# Altium integrated library Capacitors - Aluminum - Electrolytic SMT.IntLib: 1988 symbols (part 2 of 50)
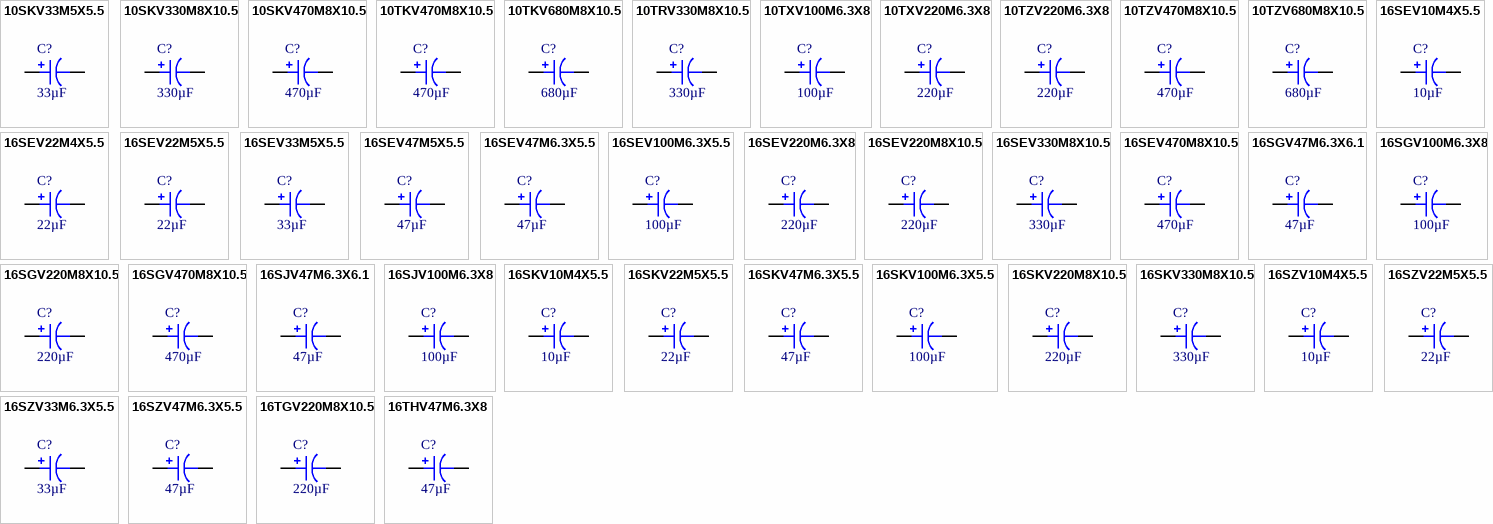
[diagram p50: symbols 10SKV33M5X5.5 to 16THV47M6.3X8]

## 10SKV33M5X5.5
designator C?, comment 33µF
CAP ALUM 33UF 20% 10V SMD; Part Number: 10SKV33M5X5.5; Manufacturer: Rubycon; Lifetime @ Temp.: 1000 Hrs @ 105°C; Polarization: Polar; Ripple Current @ Low Frequency: 34mA @ 120Hz; Surface Mount Land Size: 0.209" L x 0.209" W (5.30mm x 5.30mm); Applications: General Purpose; Capacitance: 33µF; ComponentLink1Description: Datasheet; ComponentLink1URL: http://www.rubycon.co.jp/en/catalog/e_pdfs/aluminum/e_SKV.pdf; ComponentLink2Description: DigiKey Link; ComponentLink2URL: http://digikey.com/product-detail/en/rubycon/10SKV33M5X5.5/1189-3066-1-ND/6050368; Device Package: Radial, Can - SMD; Height - Seated (Max): 0.217" (5.50mm); LastUpdated: 9/2/2020 1:25:24 AM; Lifecycle Status: Active; Minimum Order: 1; Mounting Type: Surface Mount; Operating Temperature: -55°C ~ 105°C; Package / Case: Radial, Can - SMD; Packaging: TapeAndReel; PartId: 7874; Part Status: Active; Price: 0.10; Series: SKV; Size / Dimension: 0.197" Dia (5.00mm); Supplier 1: DigiKey; Supplier Part Number 1: 1189-3066-1-ND; Tolerance: ±20%; Value: 33µF; Voltage - Rated: 10V
footprint CAP ALSMD 5.3MM H5.4MM
pins: 1, 2

## 10SKV330M8X10.5
designator C?, comment 330µF
CAP ALUM 330UF 20% 10V SMD; Part Number: 10SKV330M8X10.5; Manufacturer: Rubycon; Lifetime @ Temp.: 1000 Hrs @ 105°C; Polarization: Polar; Ripple Current @ High Frequency: 234mA @ 10kHz; Ripple Current @ Low Frequency: 195mA @ 120Hz; Surface Mount Land Size: 0.327" L x 0.327" W (8.30mm x 8.30mm); Applications: General Purpose; Capacitance: 330µF; ComponentLink1Description: Datasheet; ComponentLink1URL: http://www.rubycon.co.jp/en/catalog/e_pdfs/aluminum/e_SKV.pdf; ComponentLink2Description: DigiKey Link; ComponentLink2URL: http://digikey.com/product-detail/en/rubycon/10SKV330M8X10.5/1189-3065-1-ND/6050367; Device Package: Radial, Can - SMD; Height - Seated (Max): 0.413" (10.50mm); LastUpdated: 9/2/2020 1:25:15 AM; Lifecycle Status: Active; Minimum Order: 1; Mounting Type: Surface Mount; Operating Temperature: -55°C ~ 105°C; Package / Case: Radial, Can - SMD; Packaging: TapeAndReel; PartId: 7554; Part Status: Active; Price: 0.22; Series: SKV; Size / Dimension: 0.315" Dia (8.00mm); Supplier 1: DigiKey; Supplier Part Number 1: 1189-3065-1-ND; Tolerance: ±20%; Value: 330µF; Voltage - Rated: 10V
footprint CAP ALSMD 8.3MM H10.5MM
pins: 1, 2

## 10SKV470M8X10.5
designator C?, comment 470µF
CAP ALUM 470UF 20% 10V SMD; Part Number: 10SKV470M8X10.5; Manufacturer: Rubycon; Lifetime @ Temp.: 1000 Hrs @ 105°C; Polarization: Polar; Ripple Current @ High Frequency: 252mA @ 10kHz; Ripple Current @ Low Frequency: 210mA @ 120Hz; Surface Mount Land Size: 0.327" L x 0.327" W (8.30mm x 8.30mm); Applications: General Purpose; Capacitance: 470µF; ComponentLink1Description: Datasheet; ComponentLink1URL: http://www.rubycon.co.jp/en/catalog/e_pdfs/aluminum/e_SKV.pdf; ComponentLink2Description: DigiKey Link; ComponentLink2URL: http://digikey.com/product-detail/en/rubycon/10SKV470M8X10.5/1189-3067-1-ND/6050369; Device Package: Radial, Can - SMD; Height - Seated (Max): 0.413" (10.50mm); LastUpdated: 9/2/2020 1:25:16 AM; Lifecycle Status: Active; Minimum Order: 1; Mounting Type: Surface Mount; Operating Temperature: -55°C ~ 105°C; Package / Case: Radial, Can - SMD; Packaging: TapeAndReel; PartId: 7459; Part Status: Active; Price: 0.23; Series: SKV; Size / Dimension: 0.315" Dia (8.00mm); Supplier 1: DigiKey; Supplier Part Number 1: 1189-3067-1-ND; Tolerance: ±20%; Value: 470µF; Voltage - Rated: 10V
footprint CAP ALSMD 8.3MM H10.5MM
pins: 1, 2

## 10TKV470M8X10.5
designator C?, comment 470µF
CAP ALUM 470UF 20% 10V SMD; Part Number: 10TKV470M8X10.5; Manufacturer: Rubycon; ESR (Equivalent Series Resistance): 80mOhm @ 100kHz; Lifetime @ Temp.: 2000 Hrs @ 105°C; Polarization: Polar; Ripple Current @ High Frequency: 850mA @ 100kHz; Ripple Current @ Low Frequency: 510mA @ 120Hz; Surface Mount Land Size: 0.327" L x 0.327" W (8.30mm x 8.30mm); Applications: Automotive; Capacitance: 470µF; ComponentLink1Description: Datasheet; ComponentLink1URL: http://www.rubycon.co.jp/en/catalog/e_pdfs/aluminum/e_TKV.pdf; ComponentLink2Description: DigiKey Link; ComponentLink2URL: http://digikey.com/product-detail/en/rubycon/10TKV470M8X10.5/1189-2063-1-ND/3986982; Device Package: Radial, Can - SMD; Height - Seated (Max): 0.413" (10.50mm); LastUpdated: 9/2/2020 1:25:14 AM; Lifecycle Status: Active; Minimum Order: 1; Mounting Type: Surface Mount; Operating Temperature: -55°C ~ 105°C; Package / Case: Radial, Can - SMD; Packaging: TapeAndReel; PartId: 7670; Part Status: Active; Price: 0.36; Ratings: AEC-Q200; Series: TKV; Size / Dimension: 0.315" Dia (8.00mm); Supplier 1: DigiKey; Supplier Part Number 1: 1189-2063-1-ND; Tolerance: ±20%; Value: 470µF; Voltage - Rated: 10V
footprint CAP ALSMD 8.3MM H10.5MM
pins: 1, 2

## 10TKV680M8X10.5
designator C?, comment 680µF
CAP ALUM 680UF 20% 10V SMD; Part Number: 10TKV680M8X10.5; Manufacturer: Rubycon; ESR (Equivalent Series Resistance): 80mOhm @ 100kHz; Lifetime @ Temp.: 2000 Hrs @ 105°C; Polarization: Polar; Ripple Current @ High Frequency: 850mA @ 100kHz; Ripple Current @ Low Frequency: 510mA @ 120Hz; Surface Mount Land Size: 0.327" L x 0.327" W (8.30mm x 8.30mm); Applications: Automotive; Capacitance: 680µF; ComponentLink1Description: Datasheet; ComponentLink1URL: http://www.rubycon.co.jp/en/catalog/e_pdfs/aluminum/e_TKV.pdf; ComponentLink2Description: DigiKey Link; ComponentLink2URL: http://digikey.com/product-detail/en/rubycon/10TKV680M8X10.5/1189-2064-1-ND/3986983; Device Package: Radial, Can - SMD; Height - Seated (Max): 0.413" (10.50mm); LastUpdated: 9/2/2020 1:25:15 AM; Lifecycle Status: Active; Minimum Order: 1; Mounting Type: Surface Mount; Operating Temperature: -55°C ~ 105°C; Package / Case: Radial, Can - SMD; Packaging: TapeAndReel; PartId: 7583; Part Status: Active; Price: 0.36; Ratings: AEC-Q200; Series: TKV; Size / Dimension: 0.315" Dia (8.00mm); Supplier 1: DigiKey; Supplier Part Number 1: 1189-2064-1-ND; Tolerance: ±20%; Value: 680µF; Voltage - Rated: 10V
footprint CAP ALSMD 8.3MM H10.5MM
pins: 1, 2

## 10TRV330M8X10.5
designator C?, comment 330µF
CAP ALUM 330UF 20% 10V SMD; Part Number: 10TRV330M8X10.5; Manufacturer: Rubycon; Impedance: 150 mOhms; Lifetime @ Temp.: 8000 Hrs @ 105°C; Polarization: Polar; Ripple Current @ High Frequency: 600mA @ 100kHz; Ripple Current @ Low Frequency: 360mA @ 120Hz; Surface Mount Land Size: 0.327" L x 0.327" W (8.30mm x 8.30mm); Applications: General Purpose; Capacitance: 330µF; ComponentLink1Description: Datasheet; ComponentLink1URL: http://www.rubycon.co.jp/en/catalog/e_pdfs/aluminum/e_TRV.pdf; ComponentLink2Description: DigiKey Link; ComponentLink2URL: http://digikey.com/product-detail/en/rubycon/10TRV330M8X10.5/1189-3529-1-ND/6050519; Device Package: Radial, Can - SMD; Height - Seated (Max): 0.413" (10.50mm); LastUpdated: 9/2/2020 1:25:15 AM; Lifecycle Status: Active; Minimum Order: 1; Mounting Type: Surface Mount; Operating Temperature: -40°C ~ 105°C; Package / Case: Radial, Can - SMD; Packaging: TapeAndReel; PartId: 7527; Part Status: Active; Price: 0.29; Series: TRV; Size / Dimension: 0.315" Dia (8.00mm); Supplier 1: DigiKey; Supplier Part Number 1: 1189-3529-1-ND; Tolerance: ±20%; Value: 330µF; Voltage - Rated: 10V
footprint CAP ALSMD 8.3MM H10.5MM
pins: 1, 2

## 10TXV100M6.3X8
designator C?, comment 100µF
CAP ALUM 100UF 20% 10V SMD; Part Number: 10TXV100M6.3X8; Manufacturer: Rubycon; ESR (Equivalent Series Resistance): 300mOhm; Lifetime @ Temp.: 1000 Hrs @ 125°C; Ripple Current @ High Frequency: 140mA @ 100kHz; Ripple Current @ Low Frequency: 70mA @ 120Hz; Surface Mount Land Size: 0.260" L x 0.260" W (6.60mm x 6.60mm); Applications: Automotive; Capacitance: 100µF; ComponentLink1Description: Datasheet; ComponentLink1URL: http://www.rubycon.co.jp/en/catalog/e_pdfs/aluminum/e_txv.pdf; ComponentLink2Description: DigiKey Link; ComponentLink2URL: http://digikey.com/product-detail/en/rubycon/10TXV100M6.3X8/1189-2112-1-ND/3987031; Device Package: Radial, Can - SMD; Height - Seated (Max): 0.315" (8.00mm); LastUpdated: 9/2/2020 1:25:37 AM; Lifecycle Status: Active; Minimum Order: 1; Mounting Type: Surface Mount; Operating Temperature: -40°C ~ 125°C; Package / Case: Radial, Can - SMD; Packaging: TapeAndReel; PartId: 8490; Part Status: Active; Price: 0.17; Ratings: AEC-Q200; Series: TXV; Size / Dimension: 0.248" Dia (6.30mm); Supplier 1: DigiKey; Supplier Part Number 1: 1189-2112-1-ND; Tolerance: ±20%; Value: 100µF; Voltage - Rated: 10V
footprint CAP ALSMD 6.6MM H8.0MM
pins: 1, 2

## 10TXV220M6.3X8
designator C?, comment 220µF
CAP ALUM 220UF 20% 10V SMD; Part Number: 10TXV220M6.3X8; Manufacturer: Rubycon; ESR (Equivalent Series Resistance): 700mOhm; Lifetime @ Temp.: 1000 Hrs @ 125°C; Ripple Current @ High Frequency: 110mA @ 100kHz; Ripple Current @ Low Frequency: 66mA @ 120Hz; Surface Mount Land Size: 0.260" L x 0.260" W (6.60mm x 6.60mm); Applications: Automotive; Capacitance: 220µF; ComponentLink1Description: Datasheet; ComponentLink1URL: http://www.rubycon.co.jp/en/catalog/e_pdfs/aluminum/e_txv.pdf; ComponentLink2Description: DigiKey Link; ComponentLink2URL: http://digikey.com/product-detail/en/rubycon/10TXV220M6.3X8/1189-2113-1-ND/3987032; Device Package: Radial, Can - SMD; Height - Seated (Max): 0.315" (8.00mm); LastUpdated: 9/2/2020 1:25:37 AM; Lifecycle Status: Active; Minimum Order: 1; Mounting Type: Surface Mount; Operating Temperature: -40°C ~ 125°C; Package / Case: Radial, Can - SMD; Packaging: TapeAndReel; PartId: 8489; Part Status: Active; Price: 0.17; Ratings: AEC-Q200; Series: TXV; Size / Dimension: 0.248" Dia (6.30mm); Supplier 1: DigiKey; Supplier Part Number 1: 1189-2113-1-ND; Tolerance: ±20%; Value: 220µF; Voltage - Rated: 10V
footprint CAP ALSMD 6.6MM H8.0MM
pins: 1, 2

## 10TZV220M6.3X8
designator C?, comment 220µF
CAP ALUM 220UF 20% 10V SMD; Part Number: 10TZV220M6.3X8; Manufacturer: Rubycon; Impedance: 340 mOhms; Lifetime @ Temp.: 2000 Hrs @ 105°C; Polarization: Polar; Ripple Current @ High Frequency: 300mA @ 100kHz; Ripple Current @ Low Frequency: 180mA @ 120Hz; Surface Mount Land Size: 0.260" L x 0.260" W (6.60mm x 6.60mm); Applications: Automotive; Capacitance: 220µF; ComponentLink1Description: Datasheet; ComponentLink1URL: http://www.rubycon.co.jp/en/catalog/e_pdfs/aluminum/e_tzv.pdf; ComponentLink2Description: DigiKey Link; ComponentLink2URL: http://digikey.com/product-detail/en/rubycon/10TZV220M6.3X8/1189-1522-1-ND/3134478; Device Package: Radial, Can - SMD; Height - Seated (Max): 0.315" (8.00mm); LastUpdated: 9/2/2020 1:25:37 AM; Lifecycle Status: Active; Minimum Order: 1; Mounting Type: Surface Mount; Operating Temperature: -55°C ~ 105°C; Package / Case: Radial, Can - SMD; Packaging: TapeAndReel; PartId: 8511; Part Status: Active; Price: 0.14; Ratings: AEC-Q200; Series: TZV; Size / Dimension: 0.248" Dia (6.30mm); Supplier 1: DigiKey; Supplier Part Number 1: 1189-1522-1-ND; Tolerance: ±20%; Value: 220µF; Voltage - Rated: 10V
footprint CAP ALSMD 6.6MM H8.0MM
pins: 1, 2

## 10TZV470M8X10.5
designator C?, comment 470µF
CAP ALUM 470UF 20% 10V SMD; Part Number: 10TZV470M8X10.5; Manufacturer: Rubycon; Impedance: 160 mOhms; Lifetime @ Temp.: 2000 Hrs @ 105°C; Polarization: Polar; Ripple Current @ High Frequency: 600mA @ 100kHz; Ripple Current @ Low Frequency: 360mA @ 120Hz; Surface Mount Land Size: 0.327" L x 0.327" W (8.30mm x 8.30mm); Applications: Automotive; Capacitance: 470µF; ComponentLink1Description: Datasheet; ComponentLink1URL: http://www.rubycon.co.jp/en/catalog/e_pdfs/aluminum/e_tzv.pdf; ComponentLink2Description: DigiKey Link; ComponentLink2URL: http://digikey.com/product-detail/en/rubycon/10TZV470M8X10.5/1189-1524-1-ND/3134480; Device Package: Radial, Can - SMD; Height - Seated (Max): 0.413" (10.50mm); LastUpdated: 9/2/2020 1:25:15 AM; Lifecycle Status: Active; Minimum Order: 1; Mounting Type: Surface Mount; Operating Temperature: -55°C ~ 105°C; Package / Case: Radial, Can - SMD; Packaging: TapeAndReel; PartId: 7571; Part Status: Active; Price: 0.21; Ratings: AEC-Q200; Series: TZV; Size / Dimension: 0.315" Dia (8.00mm); Supplier 1: DigiKey; Supplier Part Number 1: 1189-1524-1-ND; Tolerance: ±20%; Value: 470µF; Voltage - Rated: 10V
footprint CAP ALSMD 8.3MM H10.5MM
pins: 1, 2

## 10TZV680M8X10.5
designator C?, comment 680µF
CAP ALUM 680UF 20% 10V SMD; Part Number: 10TZV680M8X10.5; Manufacturer: Rubycon; Impedance: 160 mOhms; Lifetime @ Temp.: 2000 Hrs @ 105°C; Polarization: Polar; Ripple Current @ High Frequency: 600mA @ 100kHz; Ripple Current @ Low Frequency: 360mA @ 120Hz; Surface Mount Land Size: 0.327" L x 0.327" W (8.30mm x 8.30mm); Applications: Automotive; Capacitance: 680µF; ComponentLink1Description: Datasheet; ComponentLink1URL: http://www.rubycon.co.jp/en/catalog/e_pdfs/aluminum/e_tzv.pdf; ComponentLink2Description: DigiKey Link; ComponentLink2URL: http://digikey.com/product-detail/en/rubycon/10TZV680M8X10.5/1189-1525-1-ND/3134481; Device Package: Radial, Can - SMD; Height - Seated (Max): 0.413" (10.50mm); LastUpdated: 9/2/2020 1:25:15 AM; Lifecycle Status: Active; Minimum Order: 1; Mounting Type: Surface Mount; Operating Temperature: -55°C ~ 105°C; Package / Case: Radial, Can - SMD; Packaging: TapeAndReel; PartId: 7599; Part Status: Active; Price: 0.26; Ratings: AEC-Q200; Series: TZV; Size / Dimension: 0.315" Dia (8.00mm); Supplier 1: DigiKey; Supplier Part Number 1: 1189-1525-1-ND; Tolerance: ±20%; Value: 680µF; Voltage - Rated: 10V
footprint CAP ALSMD 8.3MM H10.5MM
pins: 1, 2

## 16SEV10M4X5.5
designator C?, comment 10µF
CAP ALUM 10UF 20% 16V SMD; Part Number: 16SEV10M4X5.5; Manufacturer: Rubycon; Lifetime @ Temp.: 2000 Hrs @ 85°C; Polarization: Polar; Ripple Current @ High Frequency: 37.5mA @ 10kHz; Ripple Current @ Low Frequency: 25mA @ 120Hz; Surface Mount Land Size: 0.169" L x 0.169" W (4.30mm x 4.30mm); Applications: Automotive; Capacitance: 10µF; ComponentLink1Description: Datasheet; ComponentLink1URL: http://www.rubycon.co.jp/en/catalog/e_pdfs/aluminum/e_sev.pdf; ComponentLink2Description: DigiKey Link; ComponentLink2URL: http://digikey.com/product-detail/en/rubycon/16SEV10M4X5.5/1189-1849-1-ND/3724984; Device Package: Radial, Can - SMD; Height - Seated (Max): 0.217" (5.50mm); LastUpdated: 9/2/2020 1:23:46 AM; Lifecycle Status: Active; Minimum Order: 1; Mounting Type: Surface Mount; Operating Temperature: -40°C ~ 85°C; Package / Case: Radial, Can - SMD; Packaging: TapeAndReel; PartId: 7330; Part Status: Active; Price: 0.08; Ratings: AEC-Q200; Series: SEV; Size / Dimension: 0.157" Dia (4.00mm); Supplier 1: DigiKey; Supplier Part Number 1: 1189-1849-1-ND; Tolerance: ±20%; Value: 10µF; Voltage - Rated: 16V
footprint CAP ALSMD POLY 4.3MM H5.5MM
pins: 1, 2

## 16SEV22M4X5.5
designator C?, comment 22µF
CAP ALUM 22UF 20% 16V SMD; Part Number: 16SEV22M4X5.5; Manufacturer: Rubycon; Lifetime @ Temp.: 2000 Hrs @ 85°C; Polarization: Polar; Ripple Current @ High Frequency: 45mA @ 10kHz; Ripple Current @ Low Frequency: 30mA @ 120Hz; Surface Mount Land Size: 0.169" L x 0.169" W (4.30mm x 4.30mm); Applications: Automotive; Capacitance: 22µF; ComponentLink1Description: Datasheet; ComponentLink1URL: http://www.rubycon.co.jp/en/catalog/e_pdfs/aluminum/e_sev.pdf; ComponentLink2Description: DigiKey Link; ComponentLink2URL: http://digikey.com/product-detail/en/rubycon/16SEV22M4X5.5/1189-2400-1-ND/4842304; Device Package: Radial, Can - SMD; Height - Seated (Max): 0.217" (5.50mm); LastUpdated: 9/2/2020 1:23:46 AM; Lifecycle Status: Active; Minimum Order: 1; Mounting Type: Surface Mount; Operating Temperature: -40°C ~ 85°C; Package / Case: Radial, Can - SMD; Packaging: TapeAndReel; PartId: 7325; Part Status: Active; Price: 0.10; Ratings: AEC-Q200; Series: SEV; Size / Dimension: 0.157" Dia (4.00mm); Supplier 1: DigiKey; Supplier Part Number 1: 1189-2400-1-ND; Tolerance: ±20%; Value: 22µF; Voltage - Rated: 16V
footprint CAP ALSMD POLY 4.3MM H5.5MM
pins: 1, 2

## 16SEV22M5X5.5
designator C?, comment 22µF
CAP ALUM 22UF 20% 16V SMD; Part Number: 16SEV22M5X5.5; Manufacturer: Rubycon; Lifetime @ Temp.: 2000 Hrs @ 85°C; Polarization: Polar; Ripple Current @ High Frequency: 58.5mA @ 10kHz; Ripple Current @ Low Frequency: 39mA @ 120Hz; Surface Mount Land Size: 0.209" L x 0.209" W (5.30mm x 5.30mm); Applications: Automotive; Capacitance: 22µF; ComponentLink1Description: Datasheet; ComponentLink1URL: http://www.rubycon.co.jp/en/catalog/e_pdfs/aluminum/e_sev.pdf; ComponentLink2Description: DigiKey Link; ComponentLink2URL: http://digikey.com/product-detail/en/rubycon/16SEV22M5X5.5/1189-2401-1-ND/4842305; Device Package: Radial, Can - SMD; Height - Seated (Max): 0.217" (5.50mm); LastUpdated: 9/2/2020 1:25:23 AM; Lifecycle Status: Active; Minimum Order: 1; Mounting Type: Surface Mount; Operating Temperature: -40°C ~ 85°C; Package / Case: Radial, Can - SMD; Packaging: TapeAndReel; PartId: 7956; Part Status: Active; Price: 0.12; Ratings: AEC-Q200; Series: SEV; Size / Dimension: 0.197" Dia (5.00mm); Supplier 1: DigiKey; Supplier Part Number 1: 1189-2401-1-ND; Tolerance: ±20%; Value: 22µF; Voltage - Rated: 16V
footprint CAP ALSMD 5.3MM H5.4MM
pins: 1, 2

## 16SEV33M5X5.5
designator C?, comment 33µF
CAP ALUM 33UF 20% 16V SMD; Part Number: 16SEV33M5X5.5; Manufacturer: Rubycon; Lifetime @ Temp.: 2000 Hrs @ 85°C; Polarization: Polar; Ripple Current @ Low Frequency: 43mA @ 120Hz; Surface Mount Land Size: 0.209" L x 0.209" W (5.30mm x 5.30mm); Applications: Automotive; Capacitance: 33µF; ComponentLink1Description: Datasheet; ComponentLink1URL: http://www.rubycon.co.jp/en/catalog/e_pdfs/aluminum/e_sev.pdf; ComponentLink2Description: DigiKey Link; ComponentLink2URL: http://digikey.com/product-detail/en/rubycon/16SEV33M5X5.5/1189-2402-1-ND/4842306; Device Package: Radial, Can - SMD; Height - Seated (Max): 0.217" (5.50mm); LastUpdated: 9/2/2020 1:25:23 AM; Lifecycle Status: Active; Minimum Order: 1; Mounting Type: Surface Mount; Operating Temperature: -40°C ~ 85°C; Package / Case: Radial, Can - SMD; Packaging: TapeAndReel; PartId: 7958; Part Status: Active; Price: 0.12; Ratings: AEC-Q200; Series: SEV; Size / Dimension: 0.197" Dia (5.00mm); Supplier 1: DigiKey; Supplier Part Number 1: 1189-2402-1-ND; Tolerance: ±20%; Value: 33µF; Voltage - Rated: 16V
footprint CAP ALSMD 5.3MM H5.4MM
pins: 1, 2

## 16SEV47M5X5.5
designator C?, comment 47µF
CAP ALUM 47UF 20% 16V SMD; Part Number: 16SEV47M5X5.5; Manufacturer: Rubycon; Lifetime @ Temp.: 2000 Hrs @ 85°C; Polarization: Polar; Ripple Current @ High Frequency: 75mA @ 10kHz; Ripple Current @ Low Frequency: 50mA @ 120Hz; Surface Mount Land Size: 0.209" L x 0.209" W (5.30mm x 5.30mm); Applications: Automotive; Capacitance: 47µF; ComponentLink1Description: Datasheet; ComponentLink1URL: http://www.rubycon.co.jp/en/catalog/e_pdfs/aluminum/e_sev.pdf; ComponentLink2Description: DigiKey Link; ComponentLink2URL: http://digikey.com/product-detail/en/rubycon/16SEV47M5X5.5/1189-2405-1-ND/4842309; Device Package: Radial, Can - SMD; Height - Seated (Max): 0.217" (5.50mm); LastUpdated: 9/2/2020 1:25:23 AM; Lifecycle Status: Active; Minimum Order: 1; Mounting Type: Surface Mount; Operating Temperature: -40°C ~ 85°C; Package / Case: Radial, Can - SMD; Packaging: TapeAndReel; PartId: 7972; Part Status: Active; Price: 0.12; Ratings: AEC-Q200; Series: SEV; Size / Dimension: 0.197" Dia (5.00mm); Supplier 1: DigiKey; Supplier Part Number 1: 1189-2405-1-ND; Tolerance: ±20%; Value: 47µF; Voltage - Rated: 16V
footprint CAP ALSMD 5.3MM H5.4MM
pins: 1, 2

## 16SEV47M6.3X5.5
designator C?, comment 47µF
CAP ALUM 47UF 20% 16V SMD; Part Number: 16SEV47M6.3X5.5; Manufacturer: Rubycon; Lifetime @ Temp.: 2000 Hrs @ 85°C; Polarization: Polar; Ripple Current @ High Frequency: 90mA @ 10kHz; Ripple Current @ Low Frequency: 60mA @ 120Hz; Surface Mount Land Size: 0.260" L x 0.260" W (6.60mm x 6.60mm); Applications: Automotive; Capacitance: 47µF; ComponentLink1Description: Datasheet; ComponentLink1URL: http://www.rubycon.co.jp/en/catalog/e_pdfs/aluminum/e_sev.pdf; ComponentLink2Description: DigiKey Link; ComponentLink2URL: http://digikey.com/product-detail/en/rubycon/16SEV47M6.3X5.5/1189-3071-1-ND/6050373; Device Package: Radial, Can - SMD; Height - Seated (Max): 0.217" (5.50mm); LastUpdated: 9/2/2020 1:18:41 AM; Lifecycle Status: Active; Minimum Order: 1; Mounting Type: Surface Mount; Operating Temperature: -40°C ~ 85°C; Package / Case: Radial, Can - SMD; Packaging: TapeAndReel; PartId: 9084; Part Status: Active; Price: 0.12; Ratings: AEC-Q200; Series: SEV; Size / Dimension: 0.248" Dia (6.30mm); Supplier 1: DigiKey; Supplier Part Number 1: 1189-3071-1-ND; Tolerance: ±20%; Value: 47µF; Voltage - Rated: 16V
footprint CAP ALSMD 6.6MM H6.1MM
pins: 1, 2

## 16SEV100M6.3X5.5
designator C?, comment 100µF
CAP ALUM 100UF 20% 16V SMD; Part Number: 16SEV100M6.3X5.5; Manufacturer: Rubycon; Lifetime @ Temp.: 2000 Hrs @ 85°C; Polarization: Polar; Ripple Current @ High Frequency: 103.2mA @ 10kHz; Ripple Current @ Low Frequency: 86mA @ 120Hz; Surface Mount Land Size: 0.260" L x 0.260" W (6.60mm x 6.60mm); Applications: Automotive; Capacitance: 100µF; ComponentLink1Description: Datasheet; ComponentLink1URL: http://www.rubycon.co.jp/en/catalog/e_pdfs/aluminum/e_sev.pdf; ComponentLink2Description: DigiKey Link; ComponentLink2URL: http://digikey.com/product-detail/en/rubycon/16SEV100M6.3X5.5/1189-2396-1-ND/4842300; Device Package: Radial, Can - SMD; Height - Seated (Max): 0.217" (5.50mm); LastUpdated: 9/2/2020 1:18:38 AM; Lifecycle Status: Active; Minimum Order: 1; Mounting Type: Surface Mount; Operating Temperature: -40°C ~ 85°C; Package / Case: Radial, Can - SMD; Packaging: TapeAndReel; PartId: 8927; Part Status: Active; Price: 0.12; Ratings: AEC-Q200; Series: SEV; Size / Dimension: 0.248" Dia (6.30mm); Supplier 1: DigiKey; Supplier Part Number 1: 1189-2396-1-ND; Tolerance: ±20%; Value: 100µF; Voltage - Rated: 16V
footprint CAP ALSMD 6.6MM H6.1MM
pins: 1, 2

## 16SEV220M6.3X8
designator C?, comment 220µF
CAP ALUM 220UF 20% 16V SMD; Part Number: 16SEV220M6.3X8; Manufacturer: Rubycon; Lifetime @ Temp.: 2000 Hrs @ 85°C; Polarization: Polar; Ripple Current @ High Frequency: 198mA @ 10kHz; Ripple Current @ Low Frequency: 165mA @ 120Hz; Surface Mount Land Size: 0.260" L x 0.260" W (6.60mm x 6.60mm); Applications: Automotive; Capacitance: 220µF; ComponentLink1Description: Datasheet; ComponentLink1URL: http://www.rubycon.co.jp/en/catalog/e_pdfs/aluminum/e_sev.pdf; ComponentLink2Description: DigiKey Link; ComponentLink2URL: http://digikey.com/product-detail/en/rubycon/16SEV220M6.3X8/1189-2398-1-ND/4842302; Device Package: Radial, Can - SMD; Height - Seated (Max): 0.315" (8.00mm); LastUpdated: 9/2/2020 1:25:38 AM; Lifecycle Status: Active; Minimum Order: 1; Mounting Type: Surface Mount; Operating Temperature: -40°C ~ 85°C; Package / Case: Radial, Can - SMD; Packaging: TapeAndReel; PartId: 8364; Part Status: Active; Price: 0.17; Ratings: AEC-Q200; Series: SEV; Size / Dimension: 0.248" Dia (6.30mm); Supplier 1: DigiKey; Supplier Part Number 1: 1189-2398-1-ND; Tolerance: ±20%; Value: 220µF; Voltage - Rated: 16V
footprint CAP ALSMD 6.6MM H8.0MM
pins: 1, 2

## 16SEV220M8X10.5
designator C?, comment 220µF
CAP ALUM 220UF 20% 16V SMD; Part Number: 16SEV220M8X10.5; Manufacturer: Rubycon; Lifetime @ Temp.: 2000 Hrs @ 85°C; Polarization: Polar; Ripple Current @ High Frequency: 348mA @ 10kHz; Ripple Current @ Low Frequency: 290mA @ 120Hz; Surface Mount Land Size: 0.327" L x 0.327" W (8.30mm x 8.30mm); Applications: Automotive; Capacitance: 220µF; ComponentLink1Description: Datasheet; ComponentLink1URL: http://www.rubycon.co.jp/en/catalog/e_pdfs/aluminum/e_sev.pdf; ComponentLink2Description: DigiKey Link; ComponentLink2URL: http://digikey.com/product-detail/en/rubycon/16SEV220M8X10.5/1189-2399-1-ND/4842303; Device Package: Radial, Can - SMD; Height - Seated (Max): 0.413" (10.50mm); LastUpdated: 9/2/2020 1:25:14 AM; Lifecycle Status: Active; Minimum Order: 1; Mounting Type: Surface Mount; Operating Temperature: -40°C ~ 85°C; Package / Case: Radial, Can - SMD; Packaging: TapeAndReel; PartId: 7729; Part Status: Active; Price: 0.25; Ratings: AEC-Q200; Series: SEV; Size / Dimension: 0.315" Dia (8.00mm); Supplier 1: DigiKey; Supplier Part Number 1: 1189-2399-1-ND; Tolerance: ±20%; Value: 220µF; Voltage - Rated: 16V
footprint CAP ALSMD 8.3MM H10.5MM
pins: 1, 2

## 16SEV330M8X10.5
designator C?, comment 330µF
CAP ALUM 330UF 20% 16V SMD; Part Number: 16SEV330M8X10.5; Manufacturer: Rubycon; Lifetime @ Temp.: 2000 Hrs @ 85°C; Polarization: Polar; Ripple Current @ Low Frequency: 330mA @ 120Hz; Surface Mount Land Size: 0.327" L x 0.327" W (8.30mm x 8.30mm); Applications: Automotive; Capacitance: 330µF; ComponentLink1Description: Datasheet; ComponentLink1URL: http://www.rubycon.co.jp/en/catalog/e_pdfs/aluminum/e_sev.pdf; ComponentLink2Description: DigiKey Link; ComponentLink2URL: http://digikey.com/product-detail/en/rubycon/16SEV330M8X10.5/1189-3070-1-ND/6050372; Device Package: Radial, Can - SMD; Height - Seated (Max): 0.413" (10.50mm); LastUpdated: 9/2/2020 1:25:15 AM; Lifecycle Status: Active; Minimum Order: 1; Mounting Type: Surface Mount; Operating Temperature: -40°C ~ 85°C; Package / Case: Radial, Can - SMD; Packaging: TapeAndReel; PartId: 7597; Part Status: Active; Price: 0.22; Ratings: AEC-Q200; Series: SEV; Size / Dimension: 0.315" Dia (8.00mm); Supplier 1: DigiKey; Supplier Part Number 1: 1189-3070-1-ND; Tolerance: ±20%; Value: 330µF; Voltage - Rated: 16V
footprint CAP ALSMD 8.3MM H10.5MM
pins: 1, 2

## 16SEV470M8X10.5
designator C?, comment 470µF
CAP ALUM 470UF 20% 16V SMD; Part Number: 16SEV470M8X10.5; Manufacturer: Rubycon; Lifetime @ Temp.: 2000 Hrs @ 85°C; Polarization: Polar; Ripple Current @ High Frequency: 462mA @ 10kHz; Ripple Current @ Low Frequency: 385mA @ 120Hz; Surface Mount Land Size: 0.327" L x 0.327" W (8.30mm x 8.30mm); Applications: Automotive; Capacitance: 470µF; ComponentLink1Description: Datasheet; ComponentLink1URL: http://www.rubycon.co.jp/en/catalog/e_pdfs/aluminum/e_sev.pdf; ComponentLink2Description: DigiKey Link; ComponentLink2URL: http://digikey.com/product-detail/en/rubycon/16SEV470M8X10.5/1189-2404-1-ND/4842308; Device Package: Radial, Can - SMD; Height - Seated (Max): 0.413" (10.50mm); LastUpdated: 9/2/2020 1:25:14 AM; Lifecycle Status: Active; Minimum Order: 1; Mounting Type: Surface Mount; Operating Temperature: -40°C ~ 85°C; Package / Case: Radial, Can - SMD; Packaging: TapeAndReel; PartId: 7726; Part Status: Active; Price: 0.18; Ratings: AEC-Q200; Series: SEV; Size / Dimension: 0.315" Dia (8.00mm); Supplier 1: DigiKey; Supplier Part Number 1: 1189-2404-1-ND; Tolerance: ±20%; Value: 470µF; Voltage - Rated: 16V
footprint CAP ALSMD 8.3MM H10.5MM
pins: 1, 2

## 16SGV47M6.3X6.1
designator C?, comment 47µF
CAP ALUM 47UF 20% 16V SMD; Part Number: 16SGV47M6.3X6.1; Manufacturer: Rubycon; Lifetime @ Temp.: 2000 Hrs @ 105°C; Polarization: Polar; Ripple Current @ High Frequency: 105mA @ 10kHz; Ripple Current @ Low Frequency: 70mA @ 120Hz; Surface Mount Land Size: 0.260" L x 0.260" W (6.60mm x 6.60mm); Applications: Automotive; Capacitance: 47µF; ComponentLink1Description: Datasheet; ComponentLink1URL: http://www.rubycon.co.jp/en/catalog/e_pdfs/aluminum/e_sgv.pdf; ComponentLink2Description: DigiKey Link; ComponentLink2URL: http://digikey.com/product-detail/en/rubycon/16SGV47M6.3X6.1/1189-2412-1-ND/4842316; Device Package: Radial, Can - SMD; Height - Seated (Max): 0.240" (6.10mm); LastUpdated: 9/2/2020 1:25:27 AM; Lifecycle Status: Active; Minimum Order: 1; Mounting Type: Surface Mount; Operating Temperature: -55°C ~ 105°C; Package / Case: Radial, Can - SMD; Packaging: TapeAndReel; PartId: 8091; Part Status: Active; Price: 0.13; Ratings: AEC-Q200; Series: SGV; Size / Dimension: 0.248" Dia (6.30mm); Supplier 1: DigiKey; Supplier Part Number 1: 1189-2412-1-ND; Tolerance: ±20%; Value: 47µF; Voltage - Rated: 16V
footprint CAP ALSMD 6.6MM H6.1MM
pins: 1, 2

## 16SGV100M6.3X8
designator C?, comment 100µF
CAP ALUM 100UF 20% 16V SMD; Part Number: 16SGV100M6.3X8; Manufacturer: Rubycon; Lifetime @ Temp.: 2000 Hrs @ 105°C; Polarization: Polar; Ripple Current @ High Frequency: 133.2mA @ 10kHz; Ripple Current @ Low Frequency: 111mA @ 120Hz; Surface Mount Land Size: 0.260" L x 0.260" W (6.60mm x 6.60mm); Applications: Automotive; Capacitance: 100µF; ComponentLink1Description: Datasheet; ComponentLink1URL: http://www.rubycon.co.jp/en/catalog/e_pdfs/aluminum/e_sgv.pdf; ComponentLink2Description: DigiKey Link; ComponentLink2URL: http://digikey.com/product-detail/en/rubycon/16SGV100M6.3X8/1189-2406-1-ND/4842310; Device Package: Radial, Can - SMD; Height - Seated (Max): 0.315" (8.00mm); LastUpdated: 9/2/2020 1:25:38 AM; Lifecycle Status: Active; Minimum Order: 1; Mounting Type: Surface Mount; Operating Temperature: -55°C ~ 105°C; Package / Case: Radial, Can - SMD; Packaging: TapeAndReel; PartId: 8345; Part Status: Active; Price: 0.12; Ratings: AEC-Q200; Series: SGV; Size / Dimension: 0.248" Dia (6.30mm); Supplier 1: DigiKey; Supplier Part Number 1: 1189-2406-1-ND; Tolerance: ±20%; Value: 100µF; Voltage - Rated: 16V
footprint CAP ALSMD 6.6MM H8.0MM
pins: 1, 2

## 16SGV220M8X10.5
designator C?, comment 220µF
CAP ALUM 220UF 20% 16V SMD; Part Number: 16SGV220M8X10.5; Manufacturer: Rubycon; Lifetime @ Temp.: 2000 Hrs @ 105°C; Polarization: Polar; Ripple Current @ High Frequency: 222mA @ 10kHz; Ripple Current @ Low Frequency: 185mA @ 120Hz; Surface Mount Land Size: 0.327" L x 0.327" W (8.30mm x 8.30mm); Applications: Automotive; Capacitance: 220µF; ComponentLink1Description: Datasheet; ComponentLink1URL: http://www.rubycon.co.jp/en/catalog/e_pdfs/aluminum/e_sgv.pdf; ComponentLink2Description: DigiKey Link; ComponentLink2URL: http://digikey.com/product-detail/en/rubycon/16SGV220M8X10.5/1189-2408-1-ND/4842312; Device Package: Radial, Can - SMD; Height - Seated (Max): 0.413" (10.50mm); LastUpdated: 9/2/2020 1:25:15 AM; Lifecycle Status: Active; Minimum Order: 1; Mounting Type: Surface Mount; Operating Temperature: -55°C ~ 105°C; Package / Case: Radial, Can - SMD; Packaging: TapeAndReel; PartId: 7594; Part Status: Active; Price: 0.25; Ratings: AEC-Q200; Series: SGV; Size / Dimension: 0.315" Dia (8.00mm); Supplier 1: DigiKey; Supplier Part Number 1: 1189-2408-1-ND; Tolerance: ±20%; Value: 220µF; Voltage - Rated: 16V
footprint CAP ALSMD 8.3MM H10.5MM
pins: 1, 2

## 16SGV470M8X10.5
designator C?, comment 470µF
CAP ALUM 470UF 20% 16V SMD; Part Number: 16SGV470M8X10.5; Manufacturer: Rubycon; Lifetime @ Temp.: 2000 Hrs @ 105°C; Polarization: Polar; Ripple Current @ Low Frequency: 320mA @ 120Hz; Surface Mount Land Size: 0.327" L x 0.327" W (8.30mm x 8.30mm); Applications: Automotive; Capacitance: 470µF; ComponentLink1Description: Datasheet; ComponentLink1URL: http://www.rubycon.co.jp/en/catalog/e_pdfs/aluminum/e_sgv.pdf; ComponentLink2Description: DigiKey Link; ComponentLink2URL: http://digikey.com/product-detail/en/rubycon/16SGV470M8X10.5/1189-2411-1-ND/4842315; Device Package: Radial, Can - SMD; Height - Seated (Max): 0.413" (10.50mm); LastUpdated: 9/2/2020 1:25:16 AM; Lifecycle Status: Active; Minimum Order: 1; Mounting Type: Surface Mount; Operating Temperature: -55°C ~ 105°C; Package / Case: Radial, Can - SMD; Packaging: TapeAndReel; PartId: 7475; Part Status: Active; Price: 0.27; Ratings: AEC-Q200; Series: SGV; Size / Dimension: 0.315" Dia (8.00mm); Supplier 1: DigiKey; Supplier Part Number 1: 1189-2411-1-ND; Tolerance: ±20%; Value: 470µF; Voltage - Rated: 16V
footprint CAP ALSMD 8.3MM H10.5MM
pins: 1, 2

## 16SJV47M6.3X6.1
designator C?, comment 47µF
CAP ALUM 47UF 20% 16V SMD; Part Number: 16SJV47M6.3X6.1; Manufacturer: Rubycon; Lifetime @ Temp.: 3000 Hrs @ 105°C; Polarization: Polar; Ripple Current @ High Frequency: 75mA @ 10kHz; Ripple Current @ Low Frequency: 50mA @ 120Hz; Surface Mount Land Size: 0.260" L x 0.260" W (6.60mm x 6.60mm); Applications: General Purpose; Capacitance: 47µF; ComponentLink1Description: Datasheet; ComponentLink1URL: http://www.rubycon.co.jp/en/catalog/e_pdfs/aluminum/e_SJV.pdf; ComponentLink2Description: DigiKey Link; ComponentLink2URL: http://digikey.com/product-detail/en/rubycon/16SJV47M6.3X6.1/1189-2415-1-ND/4842319; Device Package: Radial, Can - SMD; Height - Seated (Max): 0.240" (6.10mm); LastUpdated: 9/2/2020 1:25:26 AM; Lifecycle Status: Active; Minimum Order: 1; Mounting Type: Surface Mount; Operating Temperature: -40°C ~ 105°C; Package / Case: Radial, Can - SMD; Packaging: TapeAndReel; PartId: 8157; Part Status: Active; Price: 0.14; Series: SJV; Size / Dimension: 0.248" Dia (6.30mm); Supplier 1: DigiKey; Supplier Part Number 1: 1189-2415-1-ND; Tolerance: ±20%; Value: 47µF; Voltage - Rated: 16V
footprint CAP ALSMD 6.6MM H6.1MM
pins: 1, 2

## 16SJV100M6.3X8
designator C?, comment 100µF
CAP ALUM 100UF 20% 16V SMD; Part Number: 16SJV100M6.3X8; Manufacturer: Rubycon; Lifetime @ Temp.: 3000 Hrs @ 105°C; Polarization: Polar; Ripple Current @ High Frequency: 97.2mA @ 10kHz; Ripple Current @ Low Frequency: 81mA @ 120Hz; Surface Mount Land Size: 0.260" L x 0.260" W (6.60mm x 6.60mm); Applications: General Purpose; Capacitance: 100µF; ComponentLink1Description: Datasheet; ComponentLink1URL: http://www.rubycon.co.jp/en/catalog/e_pdfs/aluminum/e_SJV.pdf; ComponentLink2Description: DigiKey Link; ComponentLink2URL: http://digikey.com/product-detail/en/rubycon/16SJV100M6.3X8/1189-2413-1-ND/4842317; Device Package: Radial, Can - SMD; Height - Seated (Max): 0.315" (8.00mm); LastUpdated: 9/2/2020 1:25:37 AM; Lifecycle Status: Active; Minimum Order: 1; Mounting Type: Surface Mount; Operating Temperature: -40°C ~ 105°C; Package / Case: Radial, Can - SMD; Packaging: TapeAndReel; PartId: 8496; Part Status: Active; Price: 0.18; Series: SJV; Size / Dimension: 0.248" Dia (6.30mm); Supplier 1: DigiKey; Supplier Part Number 1: 1189-2413-1-ND; Tolerance: ±20%; Value: 100µF; Voltage - Rated: 16V
footprint CAP ALSMD 6.6MM H8.0MM
pins: 1, 2

## 16SKV10M4X5.5
designator C?, comment 10µF
CAP ALUM 10UF 20% 16V SMD; Part Number: 16SKV10M4X5.5; Manufacturer: Rubycon; Lifetime @ Temp.: 1000 Hrs @ 105°C; Polarization: Polar; Ripple Current @ High Frequency: 30mA @ 10kHz; Ripple Current @ Low Frequency: 20mA @ 120Hz; Surface Mount Land Size: 0.169" L x 0.169" W (4.30mm x 4.30mm); Applications: General Purpose; Capacitance: 10µF; ComponentLink1Description: Datasheet; ComponentLink1URL: http://www.rubycon.co.jp/en/catalog/e_pdfs/aluminum/e_SKV.pdf; ComponentLink2Description: DigiKey Link; ComponentLink2URL: http://digikey.com/product-detail/en/rubycon/16SKV10M4X5.5/1189-2417-1-ND/4842321; Device Package: Radial, Can - SMD; Height - Seated (Max): 0.217" (5.50mm); LastUpdated: 9/2/2020 1:23:45 AM; Lifecycle Status: Active; Minimum Order: 1; Mounting Type: Surface Mount; Operating Temperature: -55°C ~ 105°C; Package / Case: Radial, Can - SMD; Packaging: TapeAndReel; PartId: 7338; Part Status: Active; Price: 0.10; Series: SKV; Size / Dimension: 0.157" Dia (4.00mm); Supplier 1: DigiKey; Supplier Part Number 1: 1189-2417-1-ND; Tolerance: ±20%; Value: 10µF; Voltage - Rated: 16V
footprint CAP ALSMD POLY 4.3MM H5.5MM
pins: 1, 2

## 16SKV22M5X5.5
designator C?, comment 22µF
CAP ALUM 22UF 20% 16V SMD; Part Number: 16SKV22M5X5.5; Manufacturer: Rubycon; Lifetime @ Temp.: 1000 Hrs @ 105°C; Polarization: Polar; Ripple Current @ Low Frequency: 31mA @ 120Hz; Surface Mount Land Size: 0.209" L x 0.209" W (5.30mm x 5.30mm); Applications: General Purpose; Capacitance: 22µF; ComponentLink1Description: Datasheet; ComponentLink1URL: http://www.rubycon.co.jp/en/catalog/e_pdfs/aluminum/e_SKV.pdf; ComponentLink2Description: DigiKey Link; ComponentLink2URL: http://digikey.com/product-detail/en/rubycon/16SKV22M5X5.5/1189-3073-1-ND/6050375; Device Package: Radial, Can - SMD; Height - Seated (Max): 0.217" (5.50mm); LastUpdated: 9/2/2020 1:25:24 AM; Lifecycle Status: Active; Minimum Order: 1; Mounting Type: Surface Mount; Operating Temperature: -55°C ~ 105°C; Package / Case: Radial, Can - SMD; Packaging: TapeAndReel; PartId: 7873; Part Status: Active; Price: 0.10; Series: SKV; Size / Dimension: 0.197" Dia (5.00mm); Supplier 1: DigiKey; Supplier Part Number 1: 1189-3073-1-ND; Tolerance: ±20%; Value: 22µF; Voltage - Rated: 16V
footprint CAP ALSMD 5.3MM H5.4MM
pins: 1, 2

## 16SKV47M6.3X5.5
designator C?, comment 47µF
CAP ALUM 47UF 20% 16V SMD; Part Number: 16SKV47M6.3X5.5; Manufacturer: Rubycon; Lifetime @ Temp.: 1000 Hrs @ 105°C; Polarization: Polar; Ripple Current @ High Frequency: 84mA @ 10kHz; Ripple Current @ Low Frequency: 56mA @ 120Hz; Surface Mount Land Size: 0.260" L x 0.260" W (6.60mm x 6.60mm); Applications: General Purpose; Capacitance: 47µF; ComponentLink1Description: Datasheet; ComponentLink1URL: http://www.rubycon.co.jp/en/catalog/e_pdfs/aluminum/e_SKV.pdf; ComponentLink2Description: DigiKey Link; ComponentLink2URL: http://digikey.com/product-detail/en/rubycon/16SKV47M6.3X5.5/1189-2418-1-ND/4842322; Device Package: Radial, Can - SMD; Height - Seated (Max): 0.217" (5.50mm); LastUpdated: 9/2/2020 1:18:41 AM; Lifecycle Status: Active; Minimum Order: 1; Mounting Type: Surface Mount; Operating Temperature: -55°C ~ 105°C; Package / Case: Radial, Can - SMD; Packaging: TapeAndReel; PartId: 9092; Part Status: Active; Price: 0.13; Series: SKV; Size / Dimension: 0.248" Dia (6.30mm); Supplier 1: DigiKey; Supplier Part Number 1: 1189-2418-1-ND; Tolerance: ±20%; Value: 47µF; Voltage - Rated: 16V
footprint CAP ALSMD 6.6MM H6.1MM
pins: 1, 2

## 16SKV100M6.3X5.5
designator C?, comment 100µF
CAP ALUM 100UF 20% 16V SMD; Part Number: 16SKV100M6.3X5.5; Manufacturer: Rubycon; Lifetime @ Temp.: 1000 Hrs @ 105°C; Polarization: Polar; Ripple Current @ High Frequency: 78mA @ 10kHz; Ripple Current @ Low Frequency: 65mA @ 120Hz; Surface Mount Land Size: 0.260" L x 0.260" W (6.60mm x 6.60mm); Applications: General Purpose; Capacitance: 100µF; ComponentLink1Description: Datasheet; ComponentLink1URL: http://www.rubycon.co.jp/en/catalog/e_pdfs/aluminum/e_SKV.pdf; ComponentLink2Description: DigiKey Link; ComponentLink2URL: http://digikey.com/product-detail/en/rubycon/16SKV100M6.3X5.5/1189-2416-1-ND/4842320; Device Package: Radial, Can - SMD; Height - Seated (Max): 0.217" (5.50mm); LastUpdated: 9/2/2020 1:18:40 AM; Lifecycle Status: Active; Minimum Order: 1; Mounting Type: Surface Mount; Operating Temperature: -55°C ~ 105°C; Package / Case: Radial, Can - SMD; Packaging: TapeAndReel; PartId: 9043; Part Status: Active; Price: 0.12; Series: SKV; Size / Dimension: 0.248" Dia (6.30mm); Supplier 1: DigiKey; Supplier Part Number 1: 1189-2416-1-ND; Tolerance: ±20%; Value: 100µF; Voltage - Rated: 16V
footprint CAP ALSMD 6.6MM H6.1MM
pins: 1, 2

## 16SKV220M8X10.5
designator C?, comment 220µF
CAP ALUM 220UF 20% 16V SMD; Part Number: 16SKV220M8X10.5; Manufacturer: Rubycon; Lifetime @ Temp.: 1000 Hrs @ 105°C; Polarization: Polar; Ripple Current @ High Frequency: 222mA @ 10kHz; Ripple Current @ Low Frequency: 185mA @ 120Hz; Surface Mount Land Size: 0.327" L x 0.327" W (8.30mm x 8.30mm); Applications: General Purpose; Capacitance: 220µF; ComponentLink1Description: Datasheet; ComponentLink1URL: http://www.rubycon.co.jp/en/catalog/e_pdfs/aluminum/e_SKV.pdf; ComponentLink2Description: DigiKey Link; ComponentLink2URL: http://digikey.com/product-detail/en/rubycon/16SKV220M8X10.5/1189-3072-1-ND/6050374; Device Package: Radial, Can - SMD; Height - Seated (Max): 0.413" (10.50mm); LastUpdated: 9/2/2020 1:25:15 AM; Lifecycle Status: Active; Minimum Order: 1; Mounting Type: Surface Mount; Operating Temperature: -55°C ~ 105°C; Package / Case: Radial, Can - SMD; Packaging: TapeAndReel; PartId: 7555; Part Status: Active; Price: 0.22; Series: SKV; Size / Dimension: 0.315" Dia (8.00mm); Supplier 1: DigiKey; Supplier Part Number 1: 1189-3072-1-ND; Tolerance: ±20%; Value: 220µF; Voltage - Rated: 16V
footprint CAP ALSMD 8.3MM H10.5MM
pins: 1, 2

## 16SKV330M8X10.5
designator C?, comment 330µF
CAP ALUM 330UF 20% 16V SMD; Part Number: 16SKV330M8X10.5; Manufacturer: Rubycon; Lifetime @ Temp.: 1000 Hrs @ 105°C; Polarization: Polar; Ripple Current @ High Frequency: 234mA @ 10kHz; Ripple Current @ Low Frequency: 195mA @ 120Hz; Surface Mount Land Size: 0.327" L x 0.327" W (8.30mm x 8.30mm); Applications: General Purpose; Capacitance: 330µF; ComponentLink1Description: Datasheet; ComponentLink1URL: http://www.rubycon.co.jp/en/catalog/e_pdfs/aluminum/e_SKV.pdf; ComponentLink2Description: DigiKey Link; ComponentLink2URL: http://digikey.com/product-detail/en/rubycon/16SKV330M8X10.5/1189-3074-1-ND/6050376; Device Package: Radial, Can - SMD; Height - Seated (Max): 0.413" (10.50mm); LastUpdated: 9/2/2020 1:25:16 AM; Lifecycle Status: Active; Minimum Order: 1; Mounting Type: Surface Mount; Operating Temperature: -55°C ~ 105°C; Package / Case: Radial, Can - SMD; Packaging: TapeAndReel; PartId: 7504; Part Status: Active; Price: 0.22; Series: SKV; Size / Dimension: 0.315" Dia (8.00mm); Supplier 1: DigiKey; Supplier Part Number 1: 1189-3074-1-ND; Tolerance: ±20%; Value: 330µF; Voltage - Rated: 16V
footprint CAP ALSMD 8.3MM H10.5MM
pins: 1, 2

## 16SZV10M4X5.5
designator C?, comment 10µF
CAP ALUM 10UF 20% 16V SMD; Part Number: 16SZV10M4X5.5; Manufacturer: Rubycon; Impedance: 3 Ohms; Lifetime @ Temp.: 1000 Hrs @ 105°C; Polarization: Polar; Ripple Current @ Low Frequency: 33mA @ 120Hz; Surface Mount Land Size: 0.169" L x 0.169" W (4.30mm x 4.30mm); Applications: General Purpose; Capacitance: 10µF; ComponentLink1Description: Datasheet; ComponentLink1URL: //media.digikey.com/pdf/Data%20Sheets/Rubycon%20PDFs/SZV_Series.pdf; ComponentLink2Description: DigiKey Link; ComponentLink2URL: http://digikey.com/product-detail/en/rubycon/16SZV10M4X5.5/1189-2420-1-ND/4842324; Device Package: Radial, Can - SMD; Height - Seated (Max): 0.217" (5.50mm); LastUpdated: 9/2/2020 1:23:45 AM; Lifecycle Status: Active; Minimum Order: 1; Mounting Type: Surface Mount; Operating Temperature: -55°C ~ 105°C; Package / Case: Radial, Can - SMD; Packaging: TapeAndReel; PartId: 7345; Part Status: Active; Price: 0.12; Series: SZV; Size / Dimension: 0.157" Dia (4.00mm); Supplier 1: DigiKey; Supplier Part Number 1: 1189-2420-1-ND; Tolerance: ±20%; Value: 10µF; Voltage - Rated: 16V
footprint CAP ALSMD POLY 4.3MM H5.5MM
pins: 1, 2

## 16SZV22M5X5.5
designator C?, comment 22µF
CAP ALUM 22UF 20% 16V SMD; Part Number: 16SZV22M5X5.5; Manufacturer: Rubycon; Impedance: 1.8 Ohms; Lifetime @ Temp.: 1000 Hrs @ 105°C; Polarization: Polar; Ripple Current @ High Frequency: 95mA @ 100kHz; Ripple Current @ Low Frequency: 52.25mA @ 120Hz; Surface Mount Land Size: 0.209" L x 0.209" W (5.30mm x 5.30mm); Applications: General Purpose; Capacitance: 22µF; ComponentLink1Description: Datasheet; ComponentLink1URL: //media.digikey.com/pdf/Data%20Sheets/Rubycon%20PDFs/SZV_Series.pdf; ComponentLink2Description: DigiKey Link; ComponentLink2URL: http://digikey.com/product-detail/en/rubycon/16SZV22M5X5.5/1189-3076-1-ND/6050378; Device Package: Radial, Can - SMD; Height - Seated (Max): 0.217" (5.50mm); LastUpdated: 9/2/2020 1:25:24 AM; Lifecycle Status: Active; Minimum Order: 1; Mounting Type: Surface Mount; Operating Temperature: -55°C ~ 105°C; Package / Case: Radial, Can - SMD; Packaging: TapeAndReel; PartId: 7861; Part Status: Active; Price: 0.10; Series: SZV; Size / Dimension: 0.197" Dia (5.00mm); Supplier 1: DigiKey; Supplier Part Number 1: 1189-3076-1-ND; Tolerance: ±20%; Value: 22µF; Voltage - Rated: 16V
footprint CAP ALSMD 5.3MM H5.4MM
pins: 1, 2

## 16SZV33M6.3X5.5
designator C?, comment 33µF
CAP ALUM 33UF 20% 16V SMD; Part Number: 16SZV33M6.3X5.5; Manufacturer: Rubycon; Impedance: 1 Ohms; Lifetime @ Temp.: 1000 Hrs @ 105°C; Polarization: Polar; Ripple Current @ High Frequency: 140mA @ 100kHz; Ripple Current @ Low Frequency: 77mA @ 120Hz; Surface Mount Land Size: 0.260" L x 0.260" W (6.60mm x 6.60mm); Applications: General Purpose; Capacitance: 33µF; ComponentLink1Description: Datasheet; ComponentLink1URL: //media.digikey.com/pdf/Data%20Sheets/Rubycon%20PDFs/SZV_Series.pdf; ComponentLink2Description: DigiKey Link; ComponentLink2URL: http://digikey.com/product-detail/en/rubycon/16SZV33M6.3X5.5/1189-2421-1-ND/4842325; Device Package: Radial, Can - SMD; Height - Seated (Max): 0.217" (5.50mm); LastUpdated: 9/2/2020 1:18:40 AM; Lifecycle Status: Active; Minimum Order: 1; Mounting Type: Surface Mount; Operating Temperature: -55°C ~ 105°C; Package / Case: Radial, Can - SMD; Packaging: TapeAndReel; PartId: 9052; Part Status: Active; Price: 0.14; Series: SZV; Size / Dimension: 0.248" Dia (6.30mm); Supplier 1: DigiKey; Supplier Part Number 1: 1189-2421-1-ND; Tolerance: ±20%; Value: 33µF; Voltage - Rated: 16V
footprint CAP ALSMD 6.6MM H6.1MM
pins: 1, 2

## 16SZV47M6.3X5.5
designator C?, comment 47µF
CAP ALUM 47UF 20% 16V SMD; Part Number: 16SZV47M6.3X5.5; Manufacturer: Rubycon; Impedance: 1 Ohms; Lifetime @ Temp.: 1000 Hrs @ 105°C; Polarization: Polar; Ripple Current @ High Frequency: 140mA @ 100kHz; Ripple Current @ Low Frequency: 98mA @ 120Hz; Surface Mount Land Size: 0.260" L x 0.260" W (6.60mm x 6.60mm); Applications: General Purpose; Capacitance: 47µF; ComponentLink1Description: Datasheet; ComponentLink1URL: //media.digikey.com/pdf/Data%20Sheets/Rubycon%20PDFs/SZV_Series.pdf; ComponentLink2Description: DigiKey Link; ComponentLink2URL: http://digikey.com/product-detail/en/rubycon/16SZV47M6.3X5.5/1189-2422-1-ND/4842326; Device Package: Radial, Can - SMD; Height - Seated (Max): 0.217" (5.50mm); LastUpdated: 9/2/2020 1:18:39 AM; Lifecycle Status: Active; Minimum Order: 1; Mounting Type: Surface Mount; Operating Temperature: -55°C ~ 105°C; Package / Case: Radial, Can - SMD; Packaging: TapeAndReel; PartId: 9005; Part Status: Active; Price: 0.13; Series: SZV; Size / Dimension: 0.248" Dia (6.30mm); Supplier 1: DigiKey; Supplier Part Number 1: 1189-2422-1-ND; Tolerance: ±20%; Value: 47µF; Voltage - Rated: 16V
footprint CAP ALSMD 6.6MM H6.1MM
pins: 1, 2

## 16TGV220M8X10.5
designator C?, comment 220µF
CAP ALUM 220UF 20% 16V SMD; Part Number: 16TGV220M8X10.5; Manufacturer: Rubycon; ESR (Equivalent Series Resistance): 150mOhm @ 100kHz; Lifetime @ Temp.: 3000 Hrs @ 125°C; Polarization: Polar; Ripple Current @ High Frequency: 350mA @ 100kHz; Ripple Current @ Low Frequency: 210mA @ 120Hz; Surface Mount Land Size: 0.327" L x 0.327" W (8.30mm x 8.30mm); Applications: Automotive; Capacitance: 220µF; ComponentLink1Description: Datasheet; ComponentLink1URL: http://www.rubycon.co.jp/en/catalog/e_pdfs/aluminum/e_TGV.pdf; ComponentLink2Description: DigiKey Link; ComponentLink2URL: http://digikey.com/product-detail/en/rubycon/16TGV220M8X10.5/1189-2690-1-ND/5027739; Device Package: Radial, Can - SMD; Height - Seated (Max): 0.413" (10.50mm); LastUpdated: 9/2/2020 1:25:14 AM; Lifecycle Status: Active; Minimum Order: 1; Mounting Type: Surface Mount; Operating Temperature: -40°C ~ 125°C; Package / Case: Radial, Can - SMD; Packaging: TapeAndReel; PartId: 7667; Part Status: Active; Price: 0.39; Ratings: AEC-Q200; Series: TGV; Size / Dimension: 0.315" Dia (8.00mm); Supplier 1: DigiKey; Supplier Part Number 1: 1189-2690-1-ND; Tolerance: ±20%; Value: 220µF; Voltage - Rated: 16V
footprint CAP ALSMD 8.3MM H10.5MM
pins: 1, 2

## 16THV47M6.3X8
designator C?, comment 47µF
CAP ALUM 47UF 20% 16V SMD; Part Number: 16THV47M6.3X8; Manufacturer: Rubycon; ESR (Equivalent Series Resistance): 700mOhm @ 100kHz; Lifetime @ Temp.: 2000 Hrs @ 125°C; Polarization: Polar; Ripple Current @ High Frequency: 200mA @ 100kHz; Ripple Current @ Low Frequency: 100mA @ 120Hz; Surface Mount Land Size: 0.260" L x 0.260" W (6.60mm x 6.60mm); Applications: Automotive; Capacitance: 47µF; ComponentLink1Description: Datasheet; ComponentLink1URL: http://www.rubycon.co.jp/en/catalog/e_pdfs/aluminum/e_THV.pdf; ComponentLink2Description: DigiKey Link; ComponentLink2URL: http://digikey.com/product-detail/en/rubycon/16THV47M6.3X8/1189-4096-1-ND/9083625; Device Package: Radial, Can - SMD; Height - Seated (Max): 0.315" (8.00mm); LastUpdated: 9/2/2020 1:25:38 AM; Lifecycle Status: Active; Minimum Order: 1; Mounting Type: Surface Mount; Operating Temperature: -40°C ~ 125°C; Package / Case: Radial, Can - SMD; Packaging: TapeAndReel; PartId: 8423; Part Status: Active; Price: 0.19; Ratings: AEC-Q200; Series: THV; Size / Dimension: 0.248" Dia (6.30mm); Supplier 1: DigiKey; Supplier Part Number 1: 1189-4096-1-ND; Tolerance: ±20%; Value: 47µF; Voltage - Rated: 16V
footprint CAP ALSMD 6.6MM H8.0MM
pins: 1, 2

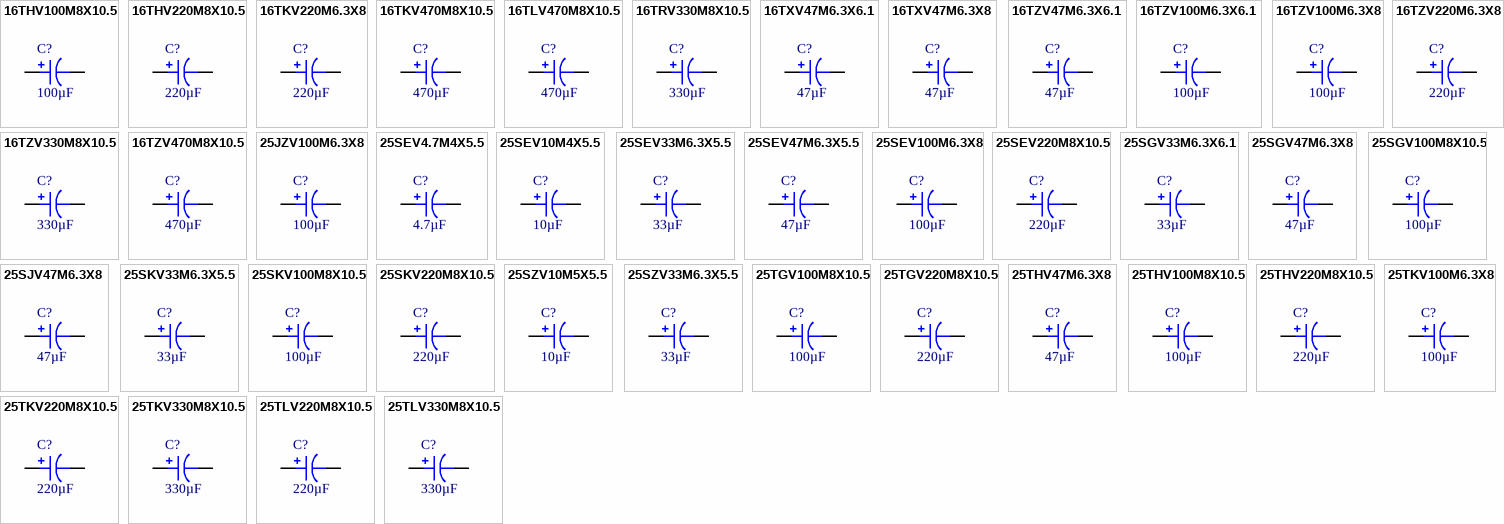
[diagram p2: symbols 16THV100M8X10.5 to 25TLV330M8X10.5]

## 16THV100M8X10.5
designator C?, comment 100µF
CAP ALUM 100UF 20% 16V SMD; Part Number: 16THV100M8X10.5; Manufacturer: Rubycon; ESR (Equivalent Series Resistance): 300mOhm @ 100kHz; Lifetime @ Temp.: 3000 Hrs @ 125°C; Polarization: Polar; Ripple Current @ High Frequency: 300mA @ 100kHz; Ripple Current @ Low Frequency: 150mA @ 120Hz; Surface Mount Land Size: 0.327" L x 0.327" W (8.30mm x 8.30mm); Applications: Automotive; Capacitance: 100µF; ComponentLink1Description: Datasheet; ComponentLink1URL: http://www.rubycon.co.jp/en/catalog/e_pdfs/aluminum/e_THV.pdf; ComponentLink2Description: DigiKey Link; ComponentLink2URL: http://digikey.com/product-detail/en/rubycon/16THV100M8X10.5/1189-2047-1-ND/3986966; Device Package: Radial, Can - SMD; Height - Seated (Max): 0.413" (10.50mm); LastUpdated: 9/2/2020 1:25:15 AM; Lifecycle Status: Active; Minimum Order: 1; Mounting Type: Surface Mount; Operating Temperature: -40°C ~ 125°C; Package / Case: Radial, Can - SMD; Packaging: TapeAndReel; PartId: 7510; Part Status: Active; Price: 0.28; Ratings: AEC-Q200; Series: THV; Size / Dimension: 0.315" Dia (8.00mm); Supplier 1: DigiKey; Supplier Part Number 1: 1189-2047-1-ND; Tolerance: ±20%; Value: 100µF; Voltage - Rated: 16V
footprint CAP ALSMD 8.3MM H10.5MM
pins: 1, 2